# Altium footprint library protection.PcbLib: 17 footprints (part 2 of 2)
Each footprint in its own frame and in the unit in brackets; x right, y up, seen from the top. Pads: shape width x height; smd on the part's side, far side on the other; paste and mask are expansions set on the pad; w line width, h text height; cw(c..) or ccw(c..) is an arc to the next point about the centre after c.
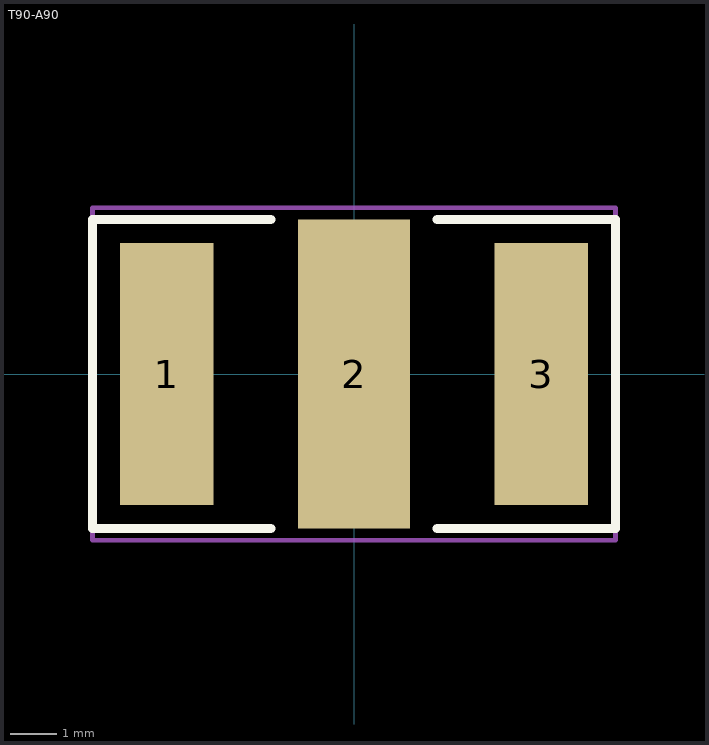
[diagram p1: the footprint, top view; thin cyan lines are the x and y axes]

## T90-A90 [mm] "Chip, 3-Leads, Body 5,00x8,20mm, IPC Medium Density"
height 0.7
pads (3):
  rect 2x5.6 smd: 1(-4,0) 3(4,0)
  rect 2.4x6.6 smd: 2(0,0)
Top Overlay:
  lines w0.2: -1.778,-3.302 -5.588,-3.302 -5.588,3.302 -1.778,3.302 ; 1.778,-3.302 5.588,-3.302 5.588,3.302 1.778,3.302
Mechanical 13:
  lines w0.1: -5.588,-3.556 -5.588,3.556 5.588,3.556 5.588,-3.556 -5.588,-3.556
  text ".Designator" at -2.413,-1.016 h2
Mechanical 15:
  lines w0.05: -5.588,-3.556 -5.588,3.556 5.588,3.556 5.588,-3.556 -5.588,-3.556
  lines w0.1: -0.508,0 0.508,0 ; 0,-0.508 0,0.508
3D body: height 5, standoff 0.1, extent -4.1,-2.5 4.1,2.5